# Altium footprint library hsbest3.PcbLib: 363 footprints (part 20 of 23)
Each footprint in its own frame and in the unit in brackets; x right, y up, seen from the top. Pads: shape width x height; smd on the part's side, far side on the other; paste and mask are expansions set on the pad; w line width, h text height; cw(c..) or ccw(c..) is an arc to the next point about the centre after c.
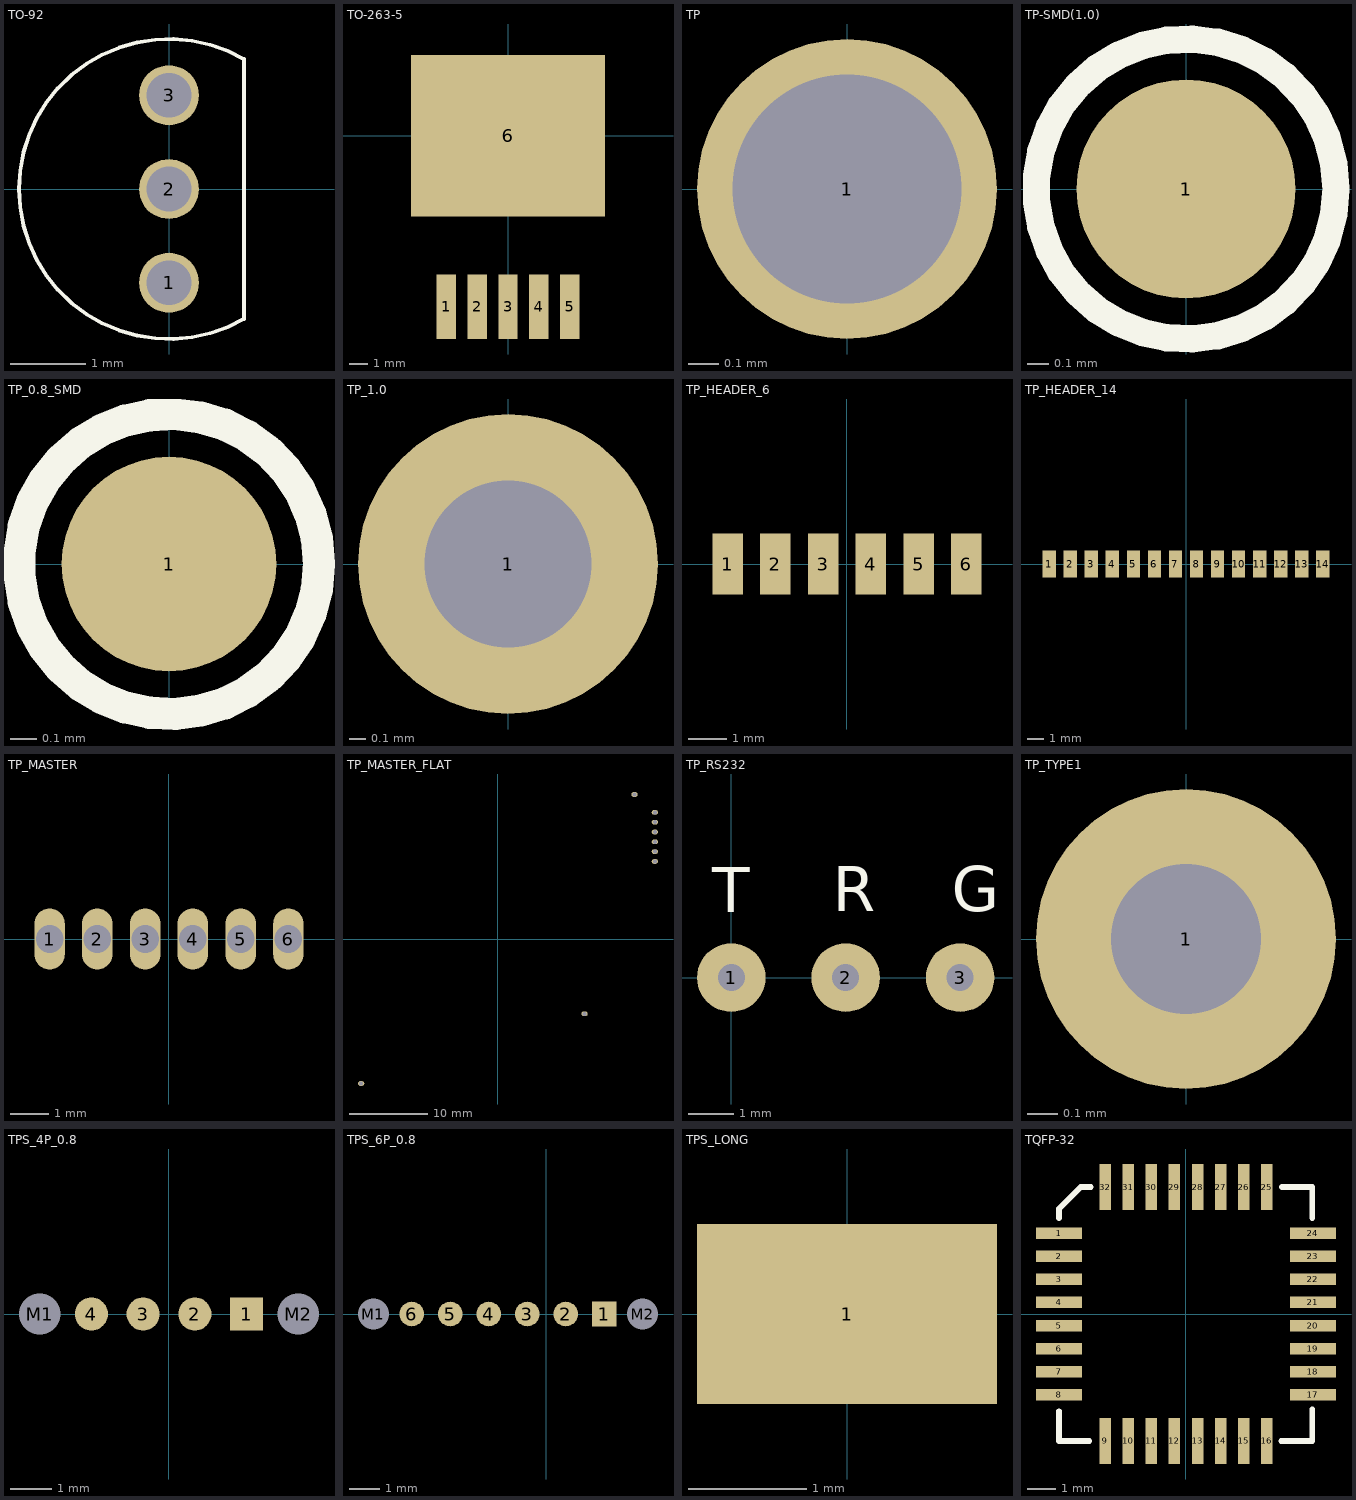
[diagram p19: the footprints below, top view; thin cyan lines are the x and y axes]

## TO-92 [mm] "温度传感器"
height 1.25
pads (3):
  round 0.8 hole 0.6: 1(0,-1.25) 2(0,0) 3(0,1.25)
Top Overlay:
  lines w0.05: 1,-1.732 cw(c0,0) 1,1.732
  lines w0.051: 1,-1.732 1,1.732

## TO-263-5 [mil]
pads (6):
  rect 42x140 smd: 1(-134.02,-370.08) 2(-67.01,-370.08) 3(0,-370.08) 4(67.01,-370.08) 5(134.02,-370.08)
  rect 420x350 smd: 6(0,0)

## TP [mm]
pads (1):
  round 1 hole 0.762: 1(0,0)

## TP-SMD(1.0) [mm]
pads (1):
  round 1 smd: 1(0,0)
Top Overlay:
  circle w0.125: c0,0 r0.684

## TP_0.8_SMD [mm]
pads (1):
  round 0.8 smd: 1(0,0)
Top Overlay:
  circle w0.12: c0,0 r0.559

## TP_1.0 [mm]
pads (1):
  round 1.8 hole 1: 1(0,0)

## TP_HEADER_6 [mm]
pads (6):
  rect 0.8x1.6 smd: 1(-3.125,0) 2(-1.875,0) 3(-0.625,0) 4(0.625,0) 5(1.875,0) 6(3.125,0)

## TP_HEADER_14 [mm]
pads (14):
  rect 0.8x1.6 smd: 1(-8.125,0) 2(-6.875,0) 3(-5.625,0) 4(-4.375,0) 5(-3.125,0) 6(-1.875,0) 7(-0.625,0) 8(0.625,0) 9(1.875,0) 10(3.125,0) 11(4.375,0) 12(5.625,0) 13(6.875,0) 14(8.125,0)

## TP_MASTER [mm]
pads (6):
  oval 0.8x1.6 hole 0.72: 1(-3.125,0) 2(-1.875,0) 3(-0.625,0) 4(0.625,0) 5(1.875,0) 6(3.125,0)

## TP_MASTER_FLAT [mm]
pads (9):
  oval 0.8x0.6 hole 0.5: 1(20,16.125) 2(20,14.875) 3(20,13.625) 4(20,12.375) 5(20,11.125) 6(20,9.875) 15(11.05,-9.525) 16(-17.4,-18.4) 17(17.4,18.4)

## TP_RS232 [mil]
pads (3):
  round 60 hole 23.62: 1(0,0) 2(100,0) 3(200,0)
Top Overlay:
  text "T" at -16.73,57.09 h39.37
  text "R" at 88.58,58.07 h39.37
  text "G" at 192.91,58.07 h39.37

## TP_TYPE1 [mm]
pads (1):
  round 1 hole 0.5: 1(0,0)

## TPS_4P_0.8 [mm]
pads (6):
  rect 0.8x0.8 smd: 1(1.875,0)
  round 0.8 smd: 2(0.625,0) 3(-0.625,0) 4(-1.875,0)
  round 0.8 hole 1 unplated: M1(-3.125,0) M2(3.125,0)

## TPS_6P_0.8 [mm]
pads (8):
  rect 0.8x0.8 smd: 1(1.875,0)
  round 0.8 smd: 2(0.625,0) 3(-0.625,0) 4(-1.875,0) 5(-3.125,0) 6(-4.375,0)
  round 0.8 hole 1 unplated: M1(-5.625,0) M2(3.125,0)

## TPS_LONG [mil]
pads (1):
  rect 100x60 smd: 1(0,0)

## TQFP-32 [mm]
pads (32):
  rect 1.6x0.4 smd: 1(-4.4,2.8) 2(-4.4,2) 3(-4.4,1.2) 4(-4.4,0.4) 5(-4.4,-0.4) 6(-4.4,-1.2) 7(-4.4,-2) 8(-4.4,-2.8) 17(4.4,-2.8) 18(4.4,-2) 19(4.4,-1.2) 20(4.4,-0.4) 21(4.4,0.4) 22(4.4,1.2) 23(4.4,2) 24(4.4,2.8)
  rect 0.4x1.6 smd: 9(-2.8,-4.4) 10(-2,-4.4) 11(-1.2,-4.4) 12(-0.4,-4.4) 13(0.4,-4.4) 14(1.2,-4.4) 15(2,-4.4) 16(2.8,-4.4) 25(2.8,4.4) 26(2,4.4) 27(1.2,4.4) 28(0.4,4.4) 29(-0.4,4.4) 30(-1.2,4.4) 31(-2,4.4) 32(-2.8,4.4)
Top Overlay:
  lines w0.2: -4.4,-3.375 -4.4,-4.4 -3.35,-4.4 ; -4.4,3.325 -4.4,3.65 -3.65,4.4 -3.3,4.4 ; 3.3,-4.4 4.375,-4.4 4.375,-3.3 ; 3.325,4.4 4.375,4.4 4.375,3.325